# Altium footprint library BC417143.PcbLib: 1 footprints
Each footprint in its own frame and in the unit in brackets; x right, y up, seen from the top. Pads: shape width x height; smd on the part's side, far side on the other; paste and mask are expansions set on the pad; w line width, h text height; cw(c..) or ccw(c..) is an arc to the next point about the centre after c.
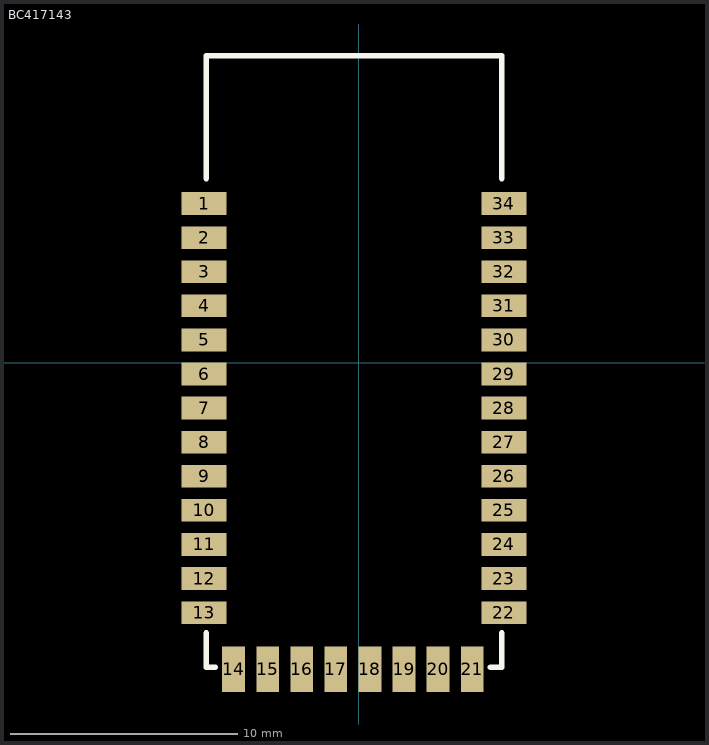
[diagram p0: the footprint, top view; thin cyan lines are the x and y axes]

## BC417143 [mm]
pads (34):
  rect 2x1 smd: 1(-6.8,7) 2(-6.8,5.5) 3(-6.8,4) 4(-6.8,2.5) 5(-6.8,1) 6(-6.8,-0.5) 7(-6.8,-2) 8(-6.8,-3.5) 9(-6.8,-5) 10(-6.8,-6.5) 11(-6.8,-8) 12(-6.8,-9.5) 13(-6.8,-11) 22(6.4,-11) 23(6.4,-9.5) 24(6.4,-8) 25(6.4,-6.5) 26(6.4,-5) 27(6.4,-3.5) 28(6.4,-2) 29(6.4,-0.5) 30(6.4,1) 31(6.4,2.5) 32(6.4,4) 33(6.4,5.5) 34(6.4,7)
  rect 1x2 smd: 14(-5.5,-13.5) 15(-4,-13.5) 16(-2.5,-13.5) 17(-1,-13.5) 18(0.5,-13.5) 19(2,-13.5) 20(3.5,-13.5) 21(5,-13.5)
Top Overlay:
  lines w0.254: -6.7,-11.9 -6.7,-13.4 -6.3,-13.4 ; -6.7,8.1 -6.7,13.5 6.3,13.5 6.3,8.1 ; 5.8,-13.4 6.3,-13.4 6.3,-11.9